# Altium schematic symbol library CanBox Relatives.SchLib: 7 symbols
Pins are listed as number, name and electrical type; pins without a type are passive.

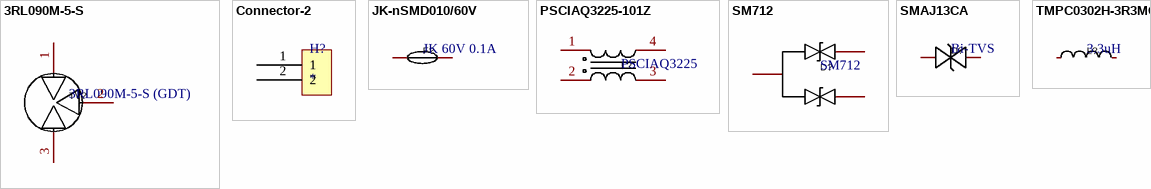
[diagram p0: symbols 3RL090M-5-S to TMPC0302H-3R3MG]

## 3RL090M-5-S
designator TV?, comment 3RL090M-5-S (GDT)
Gas Discharge Tube; Manufacturer: Brightking(君耀电子); Add into BOM: yes; Number of Poles: 3; DC Spark-over Voltage: 90V; Tolerance: ±20%; Nominal Impulse Discharge Current: 5kA; Maximum Capacitance @ 1MHz: 2pF; Name: 3RL090M-5-S; Symbol: 3RL090M-5-S; Device: 3RL090M-5-S; LCSC Part Name: 90V 5kA 3端贴片GDT; Supplier Part: C78322; Manufacturer Part: 3RL090M-5-S; Supplier Footprint: SMD,5x6.6mm; JLCPCB Part Class: Extended Part; Datasheet: https://atta.szlcsc.com/upload/public/pdf/source/20160709/1468031850741.pdf; Supplier: LCSC; Convert to PCB: yes
footprint DIO-DT-SMD
pins: 1, 2, 3

## Connector-2
designator H?
Two pin connector.
footprint CONNECT_PAD
pins: 1, 2

## JK-nSMD010/60V
designator F?, comment JK 60V 0.1A
Resettable Fuse; Manufacturer: JK(金科); Name: JK-nSMD010/60V; Add into BOM: yes; Symbol: JK-NSMD010/60V; Device: JK-nSMD010/60V; LCSC Part Name: 100mA 60V; Supplier Part: C2830236; Manufacturer Part: JK-nSMD010/60V; Supplier Footprint: SMD1206; JLCPCB Part Class: Extended Part; Datasheet: https://atta.szlcsc.com/upload/public/pdf/source/20210427/C2830251_B9511B640A50AD6A91174E2DDDD254CA.pdf; Supplier: LCSC; Convert to PCB: yes
footprint F1206
3D model F1206_L3.2-W1.7-H0.6
pins: 1, 2

## PSCIAQ3225-101Z
designator L?, comment PSCIAQ3225
Common mode choke - 5.1KOhm @ 10Mhz; Manufacturer: PROD(谱罗德); Name: PSCIAQ3225-101Z; Add into BOM: yes; Number of Lines: 2; Impedance @ Frequency: 5.1kΩ@10MHz; Inductance @ Frequency: 100uH@100kHz; Current Rating: 150mA; DC Resistance (DCR): 1.5Ω; Voltage Rating - DC: 80V; Voltage Rating: 80VAC; Symbol: PSCIAQ3225-101Z; Device: PSCIAQ3225-101Z; LCSC Part Name: 两路 1210共模滤波器 阻抗5.1kΩ@10MHz; Supplier Part: C3011568; Manufacturer Part: PSCIAQ3225-101Z; Supplier Footprint: 1210; JLCPCB Part Class: Extended Part; Datasheet: https://atta.szlcsc.com/upload/public/pdf/source/20221209/0F115E7BC87283E32C2A7BCB65AC9CDC.pdf; Supplier: LCSC; Convert to PCB: yes; Operating Temperature: -25℃~+105℃; Withstanding Voltage: 80V
footprint FILTER-SMD_4P
pins: 1, 2, 3, 4

## SM712
designator D?
Dual channel ESD discharger; Manufacturer: TECH PUBLIC(台舟); Symbol: SM712_C521963; Add into BOM: yes; Name: SM712; Device: SM712_C521963; LCSC Part Name: SM712; Supplier Part: C521963; Manufacturer Part: SM712; Supplier Footprint: SOT-23; JLCPCB Part Class: Extended Part; Datasheet: https://atta.szlcsc.com/upload/public/pdf/source/20210810/E76C7C1824B0CB2A5B8963B3ABCE2DCE.pdf; Supplier: LCSC; Convert to PCB: yes
footprint SOT-23-3
pins: 1, 2, 3

## SMAJ13CA
designator D?, comment Bi-TVS
Bidirectional TVS; Manufacturer: Slkor(萨科微); Name: SMAJ13CA; Symbol: SMAJ13CA_C513473; Add into BOM: yes; Polarity: 双向; Reverse Stand-Off Voltage (Vrwm): 13V; Breakdown Voltage: 14.4V; Peak Pulse Current (Ipp)@10/1000μs: 18.6A; Maximum Clamping Voltage: 21.5V; Device: SMAJ13CA_C513473; LCSC Part Name: 双向 Vrwm:13V; Supplier Part: C513473; Manufacturer Part: SMAJ13CA; Supplier Footprint: SMA; JLCPCB Part Class: Extended Part; Datasheet: https://atta.szlcsc.com/upload/public/pdf/source/20200414/C513473_E63E0FD439519C3FF443B186760FCA0C.pdf; Supplier: LCSC; Convert to PCB: yes
footprint SMA-BI
pins: 1 C, 2 A

## TMPC0302H-3R3MG
designator L?, comment 3.3uH
SMD power inductor 3.3uH; Manufacturer: TAI-TECH(台庆); Symbol: TMPC0302H-3R3MG; Add into BOM: yes; Tolerance: ±20%; Rated Current: 3A; DC Resistance (DCR): 125mΩ; Name: 3.3uH; Device: TMPC0302H-3R3MG; LCSC Part Name: 3.3uH ±20% 3A 125mΩ; Supplier Part: C305200; Manufacturer Part: TMPC0302H-3R3MG; Supplier Footprint: SMD; JLCPCB Part Class: Extended Part; Datasheet: https://atta.szlcsc.com/upload/public/pdf/source/20200917/C305200_025B938FDDD8216CB9AF20170083C431.pdf; Supplier: LCSC; Convert to PCB: yes; Value: 3.3uH
footprint IND-SMD_L3.5-W3.2
3D model IND-SMD_L3.5-W3.2-H0.8
pins: 1, 2